# Altium schematic symbol library FT232RL-REEL.SchLib: 1 symbol
Pins are listed as number, name and electrical type; pins without a type are passive.

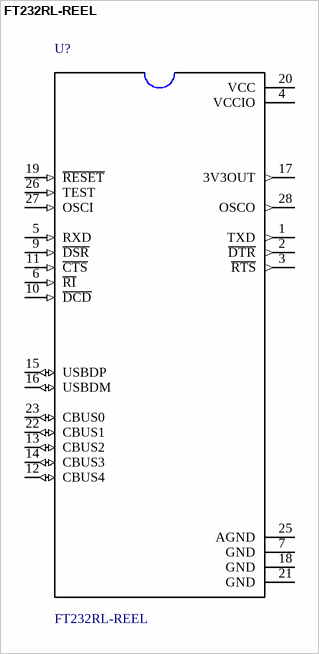
[diagram p0: symbol FT232RL-REEL]

## FT232RL-REEL
designator U?
USB Full Speed to Serial UART IC, Includes Oscillator and EEPROM - SSOP-28; MF: FTDI,; Package: SSOP-28 FTDI; MP: FT232RL-REEL; Price: None; SnapEDA_Link: https://www.snapeda.com/parts/FT232RL-REEL/FTDI%2C%20Future%20Technology%20Devices%20International%20Ltd/view-part/?ref=snap; Availability: Unavailable; Value: *
footprint SOP65P780X200-28N
pins: 1 TXD (out), 2 ~{DTR} (out), 3 ~{RTS} (out), 4 VCCIO (power), 5 RXD (in), 6 ~{RI} (in), 7 GND, 9 ~{DSR} (in), 10 ~{DCD} (in), 11 ~{CTS} (in), 12 CBUS4 (io), 13 CBUS2 (io), 14 CBUS3 (io), 15 USBDP (io), 16 USBDM (io), 17 3V3OUT (out), 18 GND, 19 ~{RESET} (in), 20 VCC (power), 21 GND, 22 CBUS1 (io), 23 CBUS0 (io), 25 AGND, 26 TEST (in), 27 OSCI (in), 28 OSCO (out)